# EAGLE library part COMPUTE-MODULE_EDGE-LIBRARY_USB_A_2PORT_STACKED_SMA (library ExportCompute Module)
Conn USB Type A RCP 4/4 POS Solder RA Thru-Hole 8 Terminal 2 Port Tray
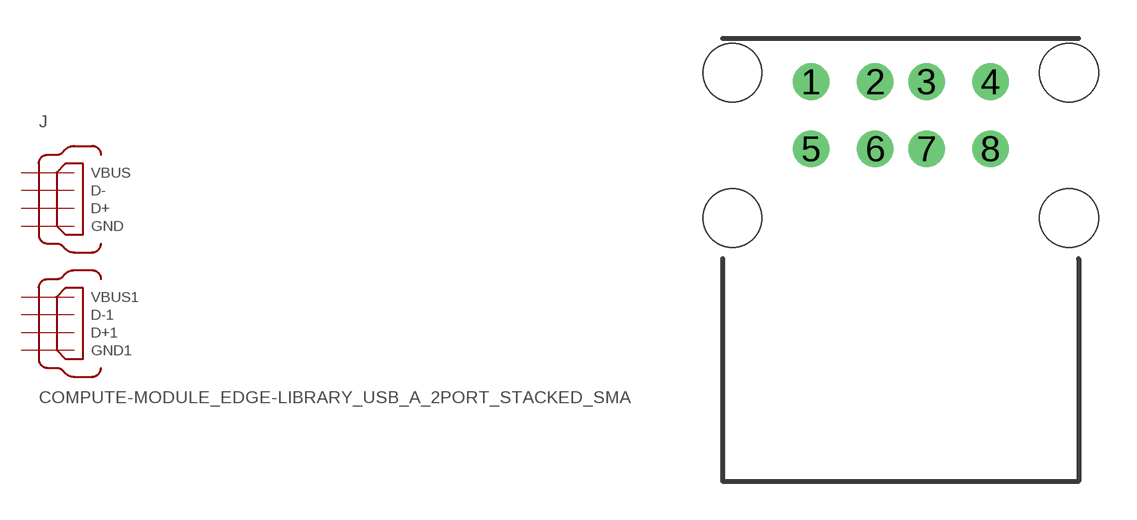
[diagram p9: symbol with the pads of COMPUTE-MODULE_EDGE-LIBRARY_67298-4090_MOLEX_67298-4090; footprint COMPUTE-MODULE_EDGE-LIBRARY_67298-4090_MOLEX_67298-4090]

Designator prefix J

## COMPUTE-MODULE_EDGE-LIBRARY_USB_A_2PORT_STACKED_SMA (DESCRIPTION: USB-A (USB TYPE-A), Stacked Receptacle Connector 8 Position Through Hole, Right Angle; DIGIKEY: WM17130-ND; MANUFACTURER: Molex; MPN: 672984090)  [COMPUTE-MODULE_EDGE-LIBRARY_67298-4090_MOLEX_67298-4090]
1  VBUS1
2  D-1
3  D+1
4  GND1
5  VBUS
6  D-
7  D+
8  GND

## Footprint COMPUTE-MODULE_EDGE-LIBRARY_67298-4090_MOLEX_67298-4090 (pad centres in mm)
drill 0.92: 1 -3.5,5.33; 2 -1,5.33; 3 1,5.33; 4 3.5,5.33; 5 -3.5,2.71; 6 -1,2.71; 7 1,2.71; 8 3.5,2.71
hole 2.3 at -6.57,5.68
hole 2.3 at -6.57,0
hole 2.3 at 6.57,5.68
hole 2.3 at 6.57,0